# EAGLE library part FPF2495UCX (library Joule Expansion Board)
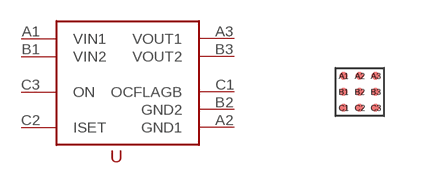
[diagram p13: symbol with the pads of 9-WLCSP; footprint 9-WLCSP]

Designator prefix -

## FPF2495UCX  [9-WLCSP]
A1  VIN1
A2  GND1
A3  VOUT1
B1  VIN2
B2  GND2
B3  VOUT2
C1  OCFLAGB
C2  ISET
C3  ON

## Footprint 9-WLCSP (pad centres in mm)
smd 0.2 x 0.2: A1 -0.4,0.4; A2 0,0.4; A3 0.4,0.4; B1 -0.4,0; B2 0,0; B3 0.4,0; C1 -0.4,-0.4; C2 0,-0.4; C3 0.4,-0.4